# EAGLE library part TPS2121RUXT (library TPS2121RUXT)
Power Switch ICs - Power Distribution 2.7-22V, 56mG , 4.5A, Priority Power MUX with Seamless Switchover 12-VQFN-HR -40 to 125 Source: Datasheet <https://www.arrow.com/en/products/tps2121ruxt/texas-instruments>
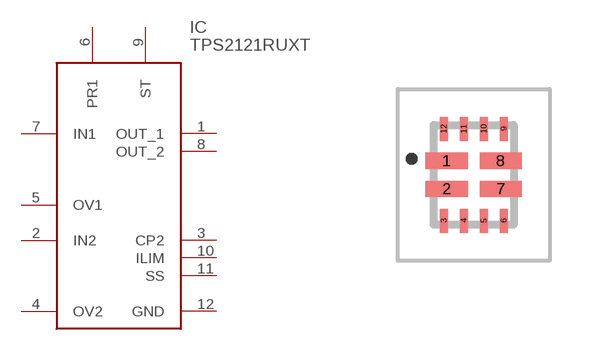
[diagram p0: symbol with the pads of TPS2121RUXT; footprint TPS2121RUXT]

Designator prefix IC

## TPS2121RUXT (Arrow_Part_Number: TPS2121RUXT; Arrow_Price-Stock: https://www.arrow.com/en/products/tps2121ruxt/texas-instruments.html?utm_currency=USD&region=nac; Description: Power Switch ICs - Power Distribution 2.7-22V, 56mG , 4.5A, Priority Power MUX with Seamless Switchover 12-VQFN-HR -40 to 125; Height: 1mm; Manufacturer_Name: Texas Instruments; Manufacturer_Part_Number: TPS2121RUXT; Mouser_Part_Number: 595-TPS2121RUXT; Mouser_Price-Stock: https://www.mouser.co.uk/ProductDetail/Texas-Instruments/TPS2121RUXT?qs=l7cgNqFNU1i6abJCbO5ulQ%3D%3D)  [TPS2121RUXT]
1  OUT_1
2  IN2
3  CP2
4  OV2
5  OV1
6  PR1
7  IN1
8  OUT_2
9  ST
10  ILIM
11  SS
12  GND

## Footprint TPS2121RUXT (pad centres in mm)
RUX0012A
smd 1.05 x 0.4: 1 -0.675,0.35; 2 -0.675,-0.35; 7 0.675,-0.35; 8 0.675,0.35
smd 0.2 x 0.6: 3 -0.75,-1.15; 4 -0.25,-1.15; 5 0.25,-1.15; 6 0.75,-1.15; 9 0.75,1.15; 10 0.25,1.15; 11 -0.25,1.15; 12 -0.75,1.15